# Altium schematic symbol library GENERIC_OPTOCOUPLER.Schlib: 1 symbol
Pins are listed as number, name and electrical type; pins without a type are passive.

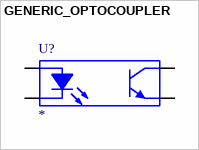
[diagram p0: symbol GENERIC_OPTOCOUPLER]

## GENERIC_OPTOCOUPLER
designator U?
pins: 1 A "Anode", 2 K "Cathode", 3 E "Emitter", 4 C "Collector"